# Altium footprint library DO-214AA.PcbLib: 1 footprints
Each footprint in its own frame and in the unit in brackets; x right, y up, seen from the top. Pads: shape width x height; smd on the part's side, far side on the other; paste and mask are expansions set on the pad; w line width, h text height; cw(c..) or ccw(c..) is an arc to the next point about the centre after c.
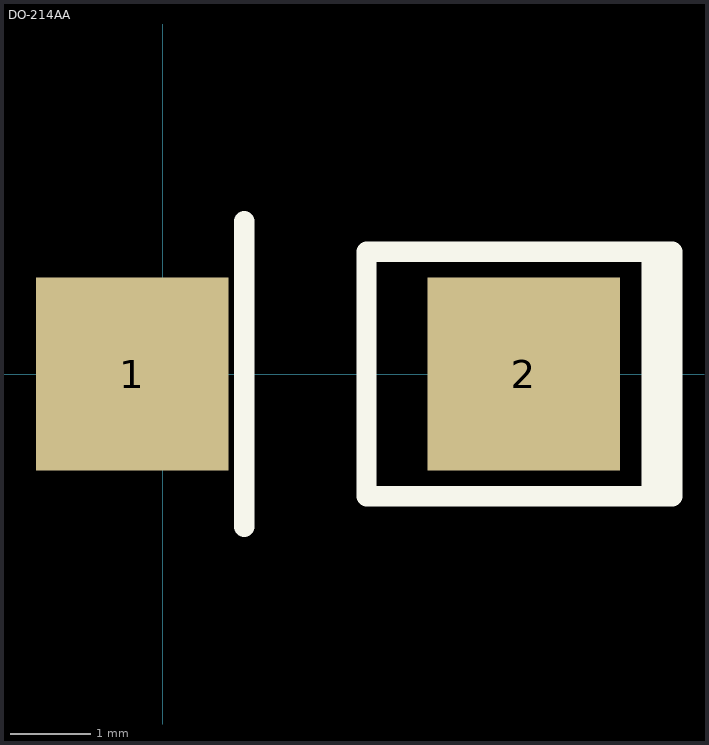
[diagram p0: the footprint, top view; thin cyan lines are the x and y axes]

## DO-214AA [mm]
pads (2):
  rect 2.4x2.4 smd: 1(-0.381,0) 2(4.5,0)
Top Overlay:
  rectangle: 5.969,-1.524 6.35,1.524
  lines w0.254: 1.016,-1.905 1.016,1.905 ; 6.096,-1.524 6.096,1.524 ; 2.54,-1.524 6.35,-1.524 6.35,1.524 2.54,1.524 2.54,-1.524
3D body "2401LM DO-214AA.STEP": height 2.65, standoff 0, extent -0.75,-1.975 4.85,1.975